# EAGLE library part LM4992BOOMERAMP (library ModernDeviceOldWorkingBest)
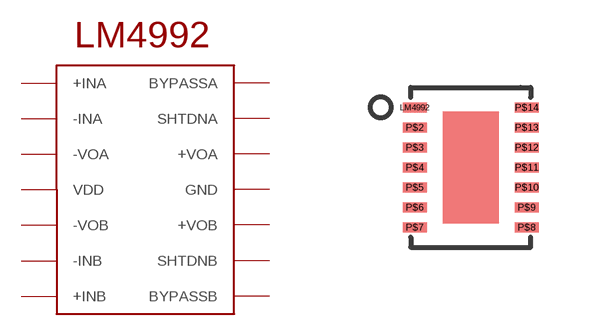
[diagram p5: symbol with the pads of LM4992BOOMERAMP; footprint LM4992BOOMERAMP]

Designator prefix -

## LM4992BOOMERAMP  [LM4992BOOMERAMP]
LM4992  +INA
P$2  -INA
P$3  -VOA
P$4  VDD
P$5  -VOB
P$6  -INB
P$7  +INB
P$8  BYPASSB
P$9  SHTDNB
P$10  +VOB
P$11  GND
P$12  +VOA
P$13  SHTDNA
P$14  BYPASSA

## Footprint LM4992BOOMERAMP (pad centres in mm)
smd 0.6 x 0.25: LM4992 -1.4,1.5; P$2 -1.4,1; P$3 -1.4,0.5; P$4 -1.4,0; P$5 -1.4,-0.5; P$6 -1.4,-1; P$7 -1.4,-1.5; P$8 1.4,-1.5; P$9 1.4,-1; P$10 1.4,-0.5; P$11 1.4,0; P$12 1.4,0.5; P$13 1.4,1; P$14 1.4,1.5